# EAGLE library part BZX84C2XXTS (library Diodes Inc)
BZX84C2xxTS - TRIPLE SURFACE MOUNT ZENER DIODE ARRAY Datasheet: http://www.diodes.com/datasheets/ds30187.pdf
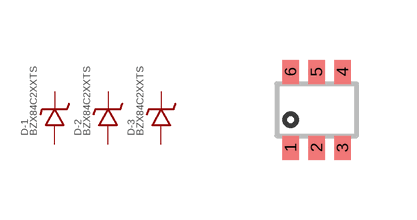
[diagram p0: symbol with the pads of SOT-363; footprint SOT-363]

Designator prefix D; gates -1=DIODE_ZENER -2=DIODE_ZENER -3=DIODE_ZENER

## BZX84C2XXTS  [SOT-363]
1  -1:ANODE
2  -2:ANODE
3  -3:ANODE
4  -3:CATHODE
5  -2:CATHODE
6  -1:CATHODE

## Footprint SOT-363 (pad centres in mm)
SOT-363 from http://www.diodes.com/datasheets/ds30187.pdf
smd 0.42 x 0.6: 1 -0.65,-0.95; 2 0,-0.95; 3 0.65,-0.95; 4 0.65,0.95; 5 0,0.95; 6 -0.65,0.95